# Altium footprint library 智能家居.PcbLib: 48 footprints (part 3 of 3)
Each footprint in its own frame and in the unit in brackets; x right, y up, seen from the top. Pads: shape width x height; smd on the part's side, far side on the other; paste and mask are expansions set on the pad; w line width, h text height; cw(c..) or ccw(c..) is an arc to the next point about the centre after c.
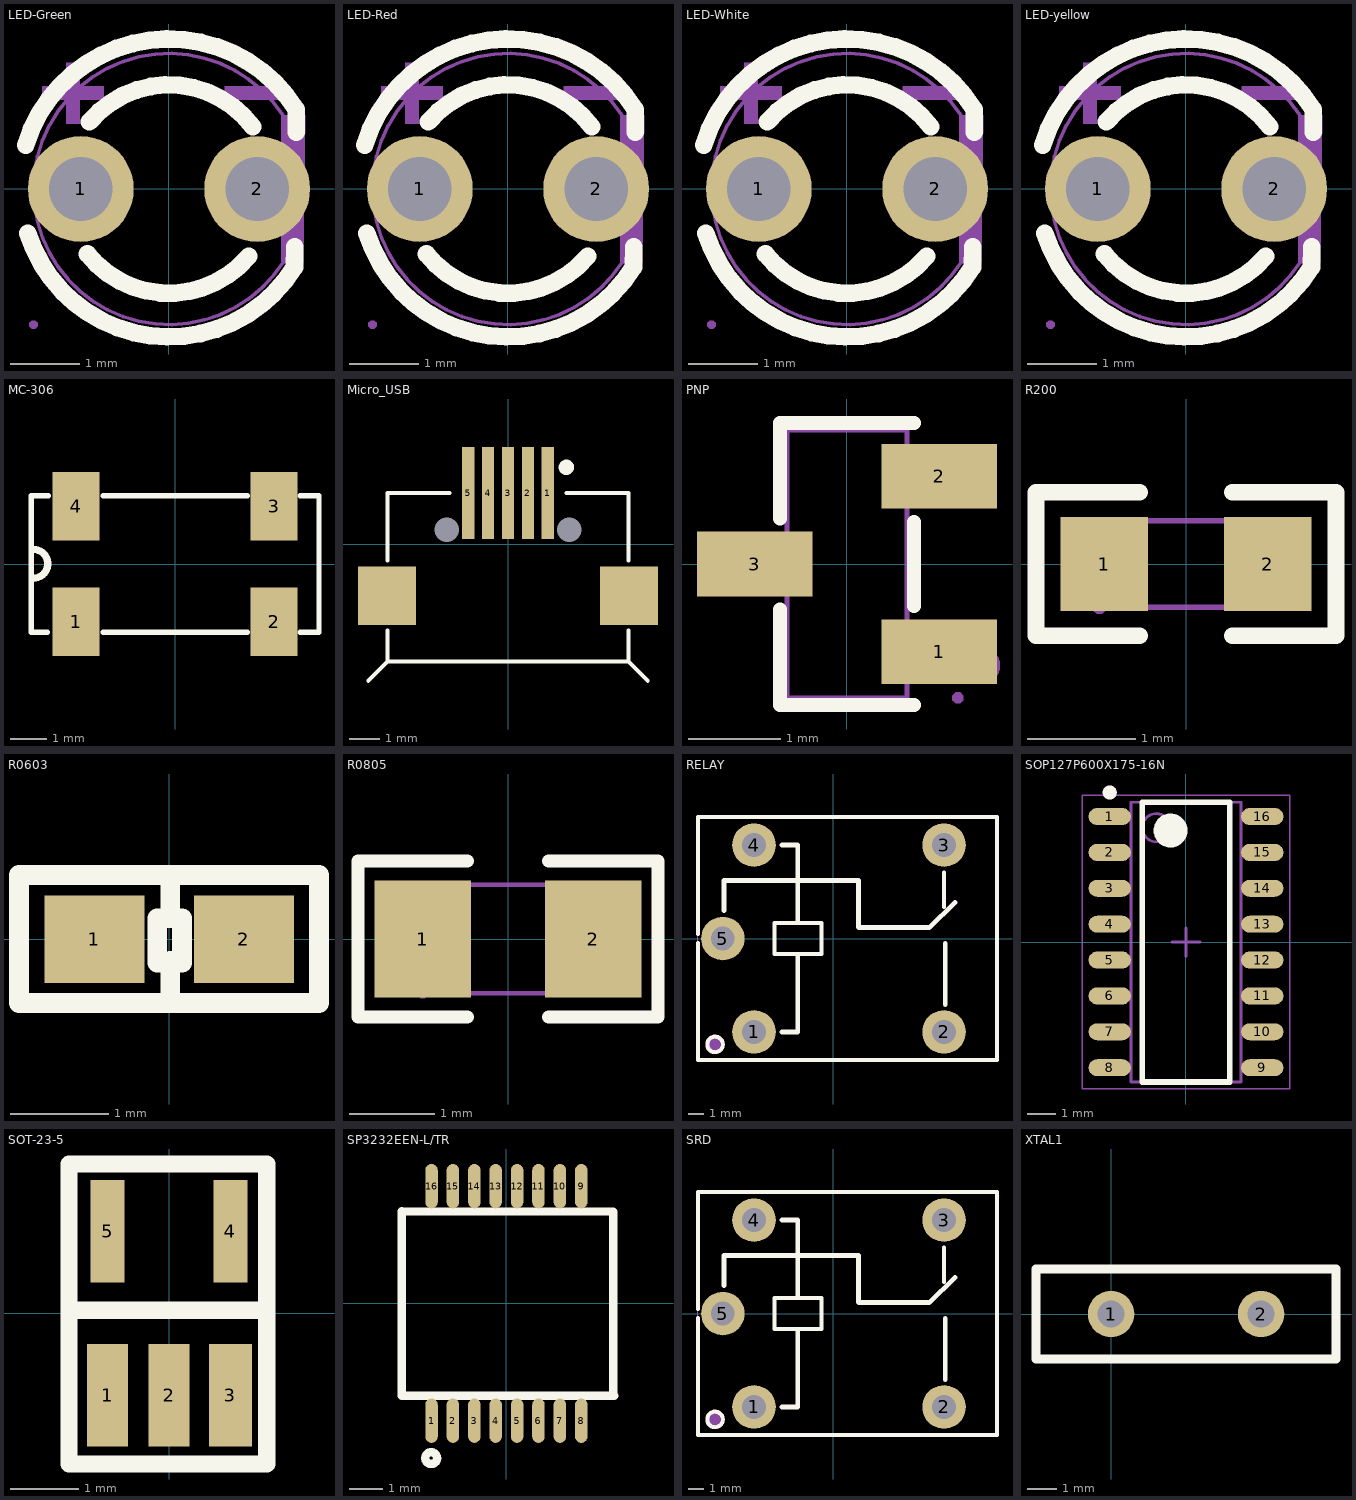
[diagram p2: the footprints below, top view; thin cyan lines are the x and y axes]

## LED-Green [mil]
pads (2):
  round 60 hole 36: 1(-50,0) 2(50,0)
Top Overlay:
  lines w10: -81.26,24.92 cw(c0,0) 72.06,45.07 72.06,32.26 ; -80,-25 ccw(c0,0) 71.08,-44.42 71.23,-32.82 ; -46.19,-36.85 ccw(c0,0) 45.22,-38.03 ; -45.12,38.07 cw(c0,0) 47.36,35.24
Mechanical 6:
  region: 64.57,41.73 64.57,-41.73 75.98,-41.73 75.98,-41.34 77.17,41.73
  region: -37.11,58.11 -71.75,58.11 -71.75,50.63 -37.11,50.63
  region: -58.16,71.68 -58.16,37.03 -50.68,37.03 -50.68,71.68
  region: 66.14,58.11 31.5,58.11 31.5,50.63 66.14,50.63
Mechanical 15:
  region: 40.16,9.84 59.84,9.84 59.84,-9.84 40.16,-9.84
  region: -59.84,9.84 -40.16,9.84 -40.16,-9.84 -59.84,-9.84
  region: -74.43,-76.85 -74.47,-75.9 -75.84,-74.59 -77.74,-74.59 -79.12,-75.91 -79.15,-76.86 -79.11,-77.8 -77.74,-79.12 -75.84,-79.12 -74.47,-77.8
  lines w2: 64.57,41.73 ccw(c0.05,-0.01) 64.6,-41.7 64.57,41.73

## LED-Red [mil]
pads (2):
  round 60 hole 36: 1(-50,0) 2(50,0)
Top Overlay:
  lines w10: -81.26,24.92 cw(c0,0) 72.06,45.07 72.06,32.26 ; -80,-25 ccw(c0,0) 71.08,-44.42 71.23,-32.82 ; -46.19,-36.85 ccw(c0,0) 45.22,-38.03 ; -45.12,38.07 cw(c0,0) 47.36,35.24
Mechanical 6:
  region: 64.57,41.73 64.57,-41.73 75.98,-41.73 75.98,-41.34 77.17,41.73
  region: -37.11,58.11 -71.75,58.11 -71.75,50.63 -37.11,50.63
  region: -58.16,71.68 -58.16,37.03 -50.68,37.03 -50.68,71.68
  region: 66.14,58.11 31.5,58.11 31.5,50.63 66.14,50.63
Mechanical 15:
  region: 40.16,9.84 59.84,9.84 59.84,-9.84 40.16,-9.84
  region: -59.84,9.84 -40.16,9.84 -40.16,-9.84 -59.84,-9.84
  region: -74.43,-76.85 -74.47,-75.9 -75.84,-74.59 -77.74,-74.59 -79.12,-75.91 -79.15,-76.86 -79.11,-77.8 -77.74,-79.12 -75.84,-79.12 -74.47,-77.8
  lines w2: 64.57,41.73 ccw(c0.05,-0.01) 64.6,-41.7 64.57,41.73

## LED-White [mil]
pads (2):
  round 60 hole 36: 1(-50,0) 2(50,0)
Top Overlay:
  lines w10: -81.26,24.92 cw(c0,0) 72.06,45.07 72.06,32.26 ; -80,-25 ccw(c0,0) 71.08,-44.42 71.23,-32.82 ; -46.19,-36.85 ccw(c0,0) 45.22,-38.03 ; -45.12,38.07 cw(c0,0) 47.36,35.24
Mechanical 6:
  region: 66.14,58.11 31.5,58.11 31.5,50.63 66.14,50.63
  region: -58.16,71.68 -58.16,37.03 -50.68,37.03 -50.68,71.68
  region: -37.11,58.11 -71.75,58.11 -71.75,50.63 -37.11,50.63
  region: 64.57,41.73 64.57,-41.73 75.98,-41.73 75.98,-41.34 77.17,41.73
Mechanical 15:
  region: -74.43,-76.85 -74.47,-75.9 -75.84,-74.59 -77.74,-74.59 -79.12,-75.91 -79.15,-76.86 -79.11,-77.8 -77.74,-79.12 -75.84,-79.12 -74.47,-77.8
  region: -59.84,9.84 -40.16,9.84 -40.16,-9.84 -59.84,-9.84
  region: 40.16,9.84 59.84,9.84 59.84,-9.84 40.16,-9.84
  lines w2: 64.57,41.73 ccw(c0.05,-0.01) 64.6,-41.7 64.57,41.73

## LED-yellow [mil]
pads (2):
  round 60 hole 36: 1(-50,0) 2(50,0)
Top Overlay:
  lines w10: -81.26,24.92 cw(c0,0) 72.06,45.07 72.06,32.26 ; -80,-25 ccw(c0,0) 71.08,-44.42 71.23,-32.82 ; -46.19,-36.85 ccw(c0,0) 45.22,-38.03 ; -45.12,38.07 cw(c0,0) 47.36,35.24
Mechanical 6:
  region: 66.14,58.11 31.5,58.11 31.5,50.63 66.14,50.63
  region: -58.16,71.68 -58.16,37.03 -50.68,37.03 -50.68,71.68
  region: -37.11,58.11 -71.75,58.11 -71.75,50.63 -37.11,50.63
  region: 64.57,41.73 64.57,-41.73 75.98,-41.73 75.98,-41.34 77.17,41.73
Mechanical 15:
  region: -74.43,-76.85 -74.47,-75.9 -75.84,-74.59 -77.74,-74.59 -79.12,-75.91 -79.15,-76.86 -79.11,-77.8 -77.74,-79.12 -75.84,-79.12 -74.47,-77.8
  region: -59.84,9.84 -40.16,9.84 -40.16,-9.84 -59.84,-9.84
  region: 40.16,9.84 59.84,9.84 59.84,-9.84 40.16,-9.84
  lines w2: 64.57,41.73 ccw(c0.05,-0.01) 64.6,-41.7 64.57,41.73

## MC-306 [mm]
height 1.6
pads (4):
  rect 1.3x1.9 smd: 1(-2.75,-1.6) 2(2.75,-1.6) 3(2.75,1.6) 4(-2.75,1.6)
Top Overlay:
  lines w0.152: -3.556,-1.9 -4,-1.9 -4,1.9 -3.531,1.9 ; -2,-1.9 2,-1.9 ; -2,1.9 2,1.9 ; 3.48,-1.9 4,-1.9 4,1.9 3.48,1.9
  lines w0.2: -3.937,-0.394 ccw(c-3.937,0.006) -3.937,0.406

## Micro_USB [mm]
height 4.32
pads (9):
  rect 0.4x3 smd: 1(1.3,1.679) 2(0.65,1.679) 3(0,1.679) 4(-0.65,1.679) 5(-1.3,1.679)
  round 0 hole 0.8 unplated: MH1(2,0.471) MH2(-2,0.471)
  rect 1.9x1.9 smd: ""(-3.95,-1.679) ""(3.95,-1.679)
Top Overlay:
  circle w0.25: c1.905,2.519 r0.125
  lines w0.127: -4.567,-4.459 -3.937,-3.829 -3.937,-2.813 ; -3.937,-0.527 -3.937,1.679 ; -3.9,-3.829 3.9,-3.829 ; -3.9,1.679 -1.905,1.679 ; 1.905,1.679 3.9,1.679 ; 3.937,-2.813 3.937,-3.829 4.567,-4.459 ; 3.937,-0.527 3.937,1.679

## PNP [mm]
pads (3):
  rect 1.25x0.7 smd: 1(1,-0.95) 2(1,0.95) 3(-1,0)
Top Overlay:
  lines w0.152: -0.726,-0.495 -0.726,-1.526 0.726,-1.526 ; -0.726,0.495 -0.726,1.526 0.726,1.526 ; 0.726,-0.455 0.726,0.455
Mechanical 6:
  circle w0.2: c1.46,-1.1 r0.1
Mechanical 15:
  region: 1.26,-1.45 1.259,-1.426 1.224,-1.392 1.176,-1.392 1.141,-1.426 1.14,-1.45 1.141,-1.474 1.176,-1.508 1.224,-1.508 1.259,-1.474 1.26,-1.45
  region: 0.64,0.735 0.64,1.165 0.91,1.165 0.91,0.735
  region: 0.9,0.735 0.9,1.165 1.2,1.165 1.2,0.735
  region: 0.64,-1.165 0.64,-0.735 0.91,-0.735 0.91,-1.165
  region: 0.9,-1.165 0.9,-0.735 1.2,-0.735 1.2,-1.165
  region: -0.91,-0.215 -0.91,0.215 -0.64,0.215 -0.64,-0.215
  region: -1.2,-0.215 -1.2,0.215 -0.9,0.215 -0.9,-0.215
  lines w0.051: -0.65,-1.45 -0.65,1.45 0.65,1.45 0.65,-1.45 -0.65,-1.45

## R200 [mm]
pads (2):
  rect 0.806x0.864 smd paste-100 mask+0.051: 1(-0.753,0) 2(0.753,0)
Top Overlay:
  lines w0.152: -0.426,-0.661 -1.385,-0.661 -1.385,0.661 -0.426,0.661 ; 0.426,-0.661 1.385,-0.661 1.385,0.661 0.426,0.661
Top Paste:
  region: 1.195,0.45 0.395,0.45 0.345,0.4 0.345,0.172 0.715,0.172 0.715,-0.158 0.345,-0.158 0.345,-0.4 0.395,-0.45 1.195,-0.45 1.245,-0.4 1.245,0.4
  region: -0.355,0.4 -0.355,0.172 -0.735,0.172 -0.735,-0.158 -0.355,-0.158 -0.355,-0.4 -0.405,-0.45 -1.195,-0.45 -1.245,-0.4 -1.245,0.4 -1.195,0.45 -0.405,0.45
Mechanical 15:
  region: -0.8,-0.4 -0.8,0.4 -0.5,0.4 -0.5,-0.4
  region: 0.8,-0.4 0.8,0.4 0.5,0.4 0.5,-0.4
  region: -0.74,-0.4 -0.74,-0.375 -0.775,-0.34 -0.825,-0.34 -0.86,-0.375 -0.86,-0.4 -0.86,-0.425 -0.825,-0.46 -0.775,-0.46 -0.74,-0.425
  lines w0.051: -0.8,-0.4 -0.8,0.4 0.8,0.4 0.8,-0.4 -0.8,-0.4

## R0603 [mil]
height 170.08
pads (2):
  rect 40x35 smd: 1(-29.92,0) 2(29.92,0)
Top Overlay:
  lines w7.87: 0.39,-21.65 0.39,-8.66 ; 0.39,9.45 0.39,21.65 ; -60.07,-25.59 -60.07,25.59 59.93,25.59 59.93,-25.59 -60.07,-25.59 ; -4.72,-9.45 5.12,-9.45 5.12,8.27 -4.72,8.27 -4.72,-9.45

## R0805 [mm]
pads (2):
  rect 1.133x1.377 smd paste-100 mask+0.051: 1(-1,0) 2(1,0)
Top Overlay:
  lines w0.152: -0.476,-0.917 -1.761,-0.917 -1.761,0.917 -0.476,0.917 ; 0.476,-0.917 1.761,-0.917 1.761,0.917 0.476,0.917
Top Paste:
  region: -1.7,-0.64 -1.7,0.64 -1.65,0.69 -0.5,0.69 -0.45,0.64 -0.445,0.23 -0.895,0.23 -0.895,-0.22 -0.455,-0.22 -0.45,-0.64 -0.5,-0.69 -1.65,-0.69
  region: 0.45,-0.64 0.45,-0.22 0.895,-0.22 0.895,0.23 0.455,0.23 0.45,0.64 0.5,0.69 1.65,0.69 1.7,0.64 1.7,-0.64 1.65,-0.69 0.5,-0.69
Mechanical 15:
  region: -1,-0.637 -1,0.637 -0.6,0.637 -0.6,-0.637
  region: 1,-0.637 1,0.637 0.6,0.637 0.6,-0.637
  region: -0.94,-0.638 -0.941,-0.614 -0.976,-0.58 -1.024,-0.58 -1.059,-0.613 -1.06,-0.637 -1.059,-0.661 -1.024,-0.695 -0.976,-0.695 -0.941,-0.662
  lines w0.051: -1,-0.637 -1,0.637 1,0.637 1,-0.637 -1,-0.637

## RELAY [mil]
pads (5):
  round 110 hole 60: 1(-200.79,-236.22) 2(279.53,-236.2) 3(279.53,236.2) 4(-200.79,236.22) 5(-279.53,0)
Top Overlay:
  circle w10: c-299.21,-267.72 r19.69
  lines w10: -342.49,-11.6 -342.49,-307.09 413.43,-307.09 ; -342.49,11.6 -342.49,307.09 413.42,307.09 413.42,-307.09 ; 279.5,79.5 279.5,167.2 ; -148.62,-39.37 -148.62,39.37 -30.51,39.37 -30.51,-39.37 -148.62,-39.37
  lines w11.81: -276.84,70.87 -276.84,146.74 63.16,146.74 63.16,28.63 64.11,27.68 222.22,27.68 242.22,27.68 ; -130.31,-236.22 -90.24,-236.22 -90.24,-41.39 ; -130.31,236.22 -90.24,236.22 -90.24,41.37 ; 242.13,27.6 307.11,90.9 ; 282.22,-167.6 282.22,-12.3
Mechanical 6:
  circle w19.68: c-299.21,-267.72 r9.84
Mechanical 15:
  region: -188.98,-236.22 -189.02,-233.9 -190.86,-229.64 -194.17,-226.39 -198.47,-224.64 -203.11,-224.64 -207.41,-226.39 -210.72,-229.64 -212.56,-233.9 -212.6,-236.22 -212.56,-238.54 -210.72,-242.8 -207.41,-246.05 -203.11,-247.81 -198.47,-247.81 -194.17,-246.05 -190.86,-242.8 -189.02,-238.54
  region: -188.98,236.22 -189.02,238.54 -190.86,242.8 -194.17,246.05 -198.47,247.8 -203.11,247.8 -207.41,246.05 -210.72,242.8 -212.56,238.54 -212.6,236.22 -212.56,233.9 -210.72,229.64 -207.41,226.39 -203.11,224.63 -198.47,224.63 -194.17,226.39 -190.86,229.64 -189.02,233.9
  region: 299.21,-246.04 259.84,-246.04 259.84,-226.36 299.21,-226.36
  region: 299.21,226.36 259.84,226.36 259.84,246.04 299.21,246.04
  region: -271.66,21.65 -271.66,-21.65 -287.41,-21.65 -287.41,21.65
  region: -340.16,-307.07 -340.16,-306.09 -341.54,-304.71 -343.5,-304.71 -344.88,-306.09 -344.88,-307.07 -344.88,-308.05 -343.5,-309.43 -341.54,-309.43 -340.16,-308.05
  lines w2: -342.52,-307.07 413.39,-307.07 413.39,307.09 -342.52,307.09 -342.52,-307.07

## SOP127P600X175-16N [mm] "SOP, 16-Leads, Body 9.90x3.90mm, Pitch 1.27mm, IPC Medium Density"
height 1.75
pads (16):
  oval 1.5x0.6 smd: 1(-2.7,4.445) 2(-2.7,3.175) 3(-2.7,1.905) 4(-2.7,0.635) 5(-2.7,-0.635) 6(-2.7,-1.905) 7(-2.7,-3.175) 8(-2.7,-4.445) 9(2.7,-4.445) 10(2.7,-3.175) 11(2.7,-1.905) 12(2.7,-0.635) 13(2.7,0.635) 14(2.7,1.905) 15(2.7,3.175) 16(2.7,4.445)
Top Overlay:
  circle w0.6: c-0.55,3.95 r0.3
  circle w0.25: c-2.7,5.295 r0.125
  lines w0.2: -1.55,-4.95 1.55,-4.95 1.55,4.95 -1.55,4.95 -1.55,-4.95
Mechanical 13:
  circle w0.1: c-1.05,4.05 r0.5
  lines w0.1: -1.95,-4.95 1.95,-4.95 1.95,4.95 -1.95,4.95 -1.95,-4.95
Mechanical 15:
  lines w0.05: -3.675,-5.2 3.675,-5.2 3.675,5.2 -3.675,5.2 -3.675,-5.2
  lines w0.1: -0.5,0 0.5,0 ; 0,-0.5 0,0.5
3D body "SOP127P600X175-16N.step": height 1.75, standoff 0, extent -3,-4.95 3,4.95

## SOT-23-5 [mm]
height 4.32
pads (5):
  rect 0.6x1.5 smd: 1(-0.9,-1.2) 2(0,-1.2)
  rect 0.63x1.5 smd: 3(0.9,-1.2)
  rect 0.5x1.5 smd: 4(0.9,1.2) 5(-0.9,1.2)
Top Overlay:
  lines w0.254: -1.466,0.041 1.43,0.041 ; -1.466,-2.21 1.43,-2.21 1.43,2.184 -1.466,2.184 -1.466,-2.21

## SP3232EEN-L/TR [mm]
pads (16):
  oval 0.38x1.35 smd: 1(-2.275,-3.562) 2(-1.625,-3.562) 3(-0.975,-3.562) 4(-0.325,-3.562) 5(0.325,-3.562) 6(0.975,-3.562) 7(1.625,-3.562) 8(2.275,-3.562) 9(2.275,3.562) 10(1.625,3.562) 11(0.975,3.562) 12(0.325,3.562) 13(-0.325,3.562) 14(-0.975,3.562) 15(-1.625,3.562) 16(-2.275,3.562)
Top Overlay:
  circle w0.254: c-2.286,-4.699 r0.18
  lines w0.254: 3.25,-2.8 3.25,2.791 -3.175,2.797 -3.175,-2.8 3.272,-2.8

## SRD [mil]
pads (5):
  round 110 hole 60: 1(-200.79,-236.22) 2(279.53,-236.2) 3(279.53,236.2) 4(-200.79,236.22) 5(-279.53,0)
Top Overlay:
  circle w10: c-299.21,-267.72 r19.69
  lines w10: -342.49,-11.6 -342.49,-307.09 413.43,-307.09 ; -342.49,11.6 -342.49,307.09 413.42,307.09 413.42,-307.09 ; 279.5,79.5 279.5,167.2 ; -148.62,-39.37 -148.62,39.37 -30.51,39.37 -30.51,-39.37 -148.62,-39.37
  lines w11.81: -276.84,70.87 -276.84,146.74 63.16,146.74 63.16,28.63 64.11,27.68 222.22,27.68 242.22,27.68 ; -130.31,-236.22 -90.24,-236.22 -90.24,-41.39 ; -130.31,236.22 -90.24,236.22 -90.24,41.37 ; 242.13,27.6 307.11,90.9 ; 282.22,-167.6 282.22,-12.3
Mechanical 6:
  circle w19.68: c-299.21,-267.72 r9.84
Mechanical 15:
  region: -188.98,-236.22 -189.02,-233.9 -190.86,-229.64 -194.17,-226.39 -198.47,-224.64 -203.11,-224.64 -207.41,-226.39 -210.72,-229.64 -212.56,-233.9 -212.6,-236.22 -212.56,-238.54 -210.72,-242.8 -207.41,-246.05 -203.11,-247.81 -198.47,-247.81 -194.17,-246.05 -190.86,-242.8 -189.02,-238.54
  region: -188.98,236.22 -189.02,238.54 -190.86,242.8 -194.17,246.05 -198.47,247.8 -203.11,247.8 -207.41,246.05 -210.72,242.8 -212.56,238.54 -212.6,236.22 -212.56,233.9 -210.72,229.64 -207.41,226.39 -203.11,224.63 -198.47,224.63 -194.17,226.39 -190.86,229.64 -189.02,233.9
  region: 299.21,-246.04 259.84,-246.04 259.84,-226.36 299.21,-226.36
  region: 299.21,226.36 259.84,226.36 259.84,246.04 299.21,246.04
  region: -271.66,21.65 -271.66,-21.65 -287.41,-21.65 -287.41,21.65
  region: -340.16,-307.07 -340.16,-306.09 -341.54,-304.71 -343.5,-304.71 -344.88,-306.09 -344.88,-307.07 -344.88,-308.05 -343.5,-309.43 -341.54,-309.43 -340.16,-308.05
  lines w2: -342.52,-307.07 413.39,-307.07 413.39,307.09 -342.52,307.09 -342.52,-307.07

## XTAL1 [mil]
height 170.08
pads (2):
  round 62 hole 35.43: 1(0,0) 2(200,0)
Top Overlay:
  lines w12: -100,-60 -100,60 300,60 300,-60 -100,-60